# EAGLE library part STPM32 (library smart_socket)
ASSP for metering applications with 2 independent 24-bit 2nd order sigma-delta ADCs, 4 MHz OSF and embedded PGLNA
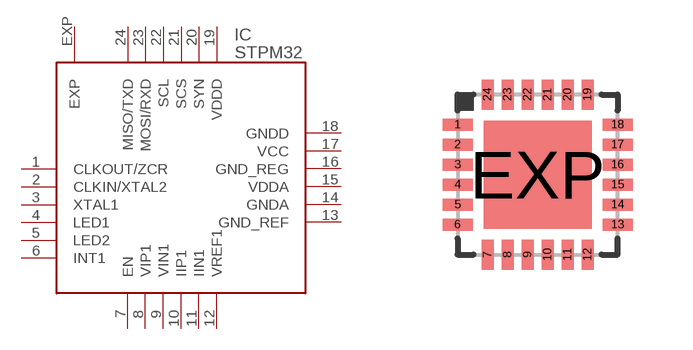
[diagram p0: symbol with the pads of QFN24L; footprint QFN24L]

Designator prefix IC

## STPM32  [QFN24L]
1  CLKOUT/ZCR
2  CLKIN/XTAL2
3  XTAL1
4  LED1
5  LED2
6  INT1
7  EN
8  VIP1
9  VIN1
10  IIP1
11  IIN1
12  VREF1
13  GND_REF
14  GNDA
15  VDDA
16  GND_REG
17  VCC
18  GNDD
19  VDDD
20  SYN
21  SCS
22  SCL
23  MOSI/RXD
24  MISO/TXD
EXP  EXP

## Footprint QFN24L (pad centres in mm)
24-Lead Plastic Quad Flat No Lead Package - 4x4 mm Body [QFN] Source: http://www.silabs.com/Support%20Documents/TechnicalDocs/Si7005.pdf
smd 0.75 x 0.3: 1 -2,1.25; 2 -2,0.75; 3 -2,0.25; 4 -2,-0.25; 5 -2,-0.75; 6 -2,-1.25; 13 2,-1.25; 14 2,-0.75; 15 2,-0.25; 16 2,0.25; 17 2,0.75; 18 2,1.25
smd 0.3 x 0.75: 7 -1.25,-2; 8 -0.75,-2; 9 -0.25,-2; 10 0.25,-2; 11 0.75,-2; 12 1.25,-2; 19 1.25,2; 20 0.75,2; 21 0.25,2; 22 -0.25,2; 23 -0.75,2; 24 -1.25,2
smd 2.7 x 2.7: EXP 0,0